# Altium schematic symbol library Schlib1.SchLib: 18 symbols
Pins are listed as number, name and electrical type; pins without a type are passive.

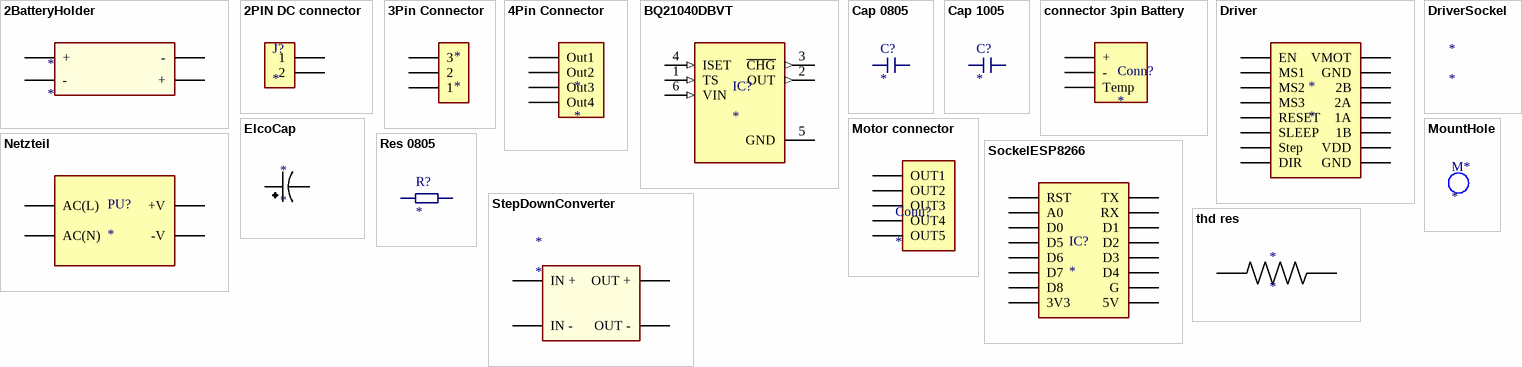
[diagram p0: symbols 2BatteryHolder to thd res]

## 2BatteryHolder
designator *
pins: 1 +, 2 -, 3 -, 4 +

## 2PIN DC connector
designator J?
footprint 2PIN DC Connector
pins: 1, 2

## 3Pin Connector
designator *
footprint 3Pin CONNECTOR
pins: 1 3, 2, 3 1

## 4Pin Connector
designator *
footprint 4Pin Connector
pins: 1 Out1, 2 Out2, 3 Out3, 4 Out4

## BQ21040DBVT
designator IC?
1-cell, 0.8-A Li-ion and Li-polymerymer battery charger 6-SOT-23 0 to 125; MF: Texas Instruments; MP: BQ21040DBVT; Value: *; SnapEDA_Link: https://www.snapeda.com/parts/BQ21040DBVT/Texas%20Instruments/view-part/1216215/?ref=snap; Texas_Instruments-Purchase-URL: https://snapeda.com/shop?store=Texas+Instruments&id=1216215; Mouser-Purchase-URL: https://snapeda.com/shop?store=Mouser&id=1216215; Digi-Key_Part_Number: 296-44196-1-ND; DigiKey-Purchase-URL: https://snapeda.com/shop?store=DigiKey&id=1216215; Package: SOT-23-6 Texas Instruments
footprint SOT95P280X145-6N
pins: 1 TS (in), 2 OUT (out), 3 ~{CHG} (out), 4 ISET (in), 5 GND (power), 6 VIN (in)

## Cap 0805
designator C?
Cap 0805
footprint Cap 0805
pins: 1, 2

## Cap 1005
designator C?
Cap 1005
footprint Model Name (Footprint not found)
footprint Cap 1005
pins: 1, 2

## connector 3pin Battery
designator Conn?
pins: 1 +, 2 -, Temp

## Driver
designator *
footprint DiverSockel
pins: 1 EN, 2 MS1, 3 MS2, 4 MS3, 5 RESET, 6 SLEEP, 7 Step, 8 DIR, 9 VMOT, 10 GND, 11 2B, 12 2A, 13 1A, 14 1B, 15 VDD, 16 GND

## DriverSockel
designator *

## ElcoCap
designator *
footprint ElcCap
pins: 1 P, 2 N

## Motor connector
designator Conn?
pins: 9 OUT1, 10 OUT2, 11 OUT3, 12 OUT4, 12 OUT5

## MountHole
designator M*
footprint MountHOle

## Netzteil
designator PU?
IRM-05-5 /
footprint Netzteil (IRM-05-5)
pins: AC/L AC(L), AC/N AC(N), VNEG -V, VPOS +V

## Res 0805
designator R?
Res 0805
footprint Res 0805
pins: 1, 2

## SockelESP8266
designator IC?
ESP8266 D1 mini Sockel
footprint ESP8266 Sockel
pins: 1 5V, 2 G, 3 D4, 4 D3, 5 D2, 6 D1, 7 RX, 8 TX, 9 3V3, 10 D8, 11 D7, 12 D6, 13 D5, 14 D0, 15 A0, 16 RST

## StepDownConverter
designator *
footprint StepDownConverter
pins: 1 IN +, 2 IN -, 3 OUT +, 4 OUT -

## thd res
designator *
footprint thd res
pins: 1, 2